# Altium footprint library AUVic_PCB_Library_Regulators.PcbLib: 153 footprints (part 7 of 10)
Each footprint in its own frame and in the unit in brackets; x right, y up, seen from the top. Pads: shape width x height; smd on the part's side, far side on the other; paste and mask are expansions set on the pad; w line width, h text height; cw(c..) or ccw(c..) is an arc to the next point about the centre after c.
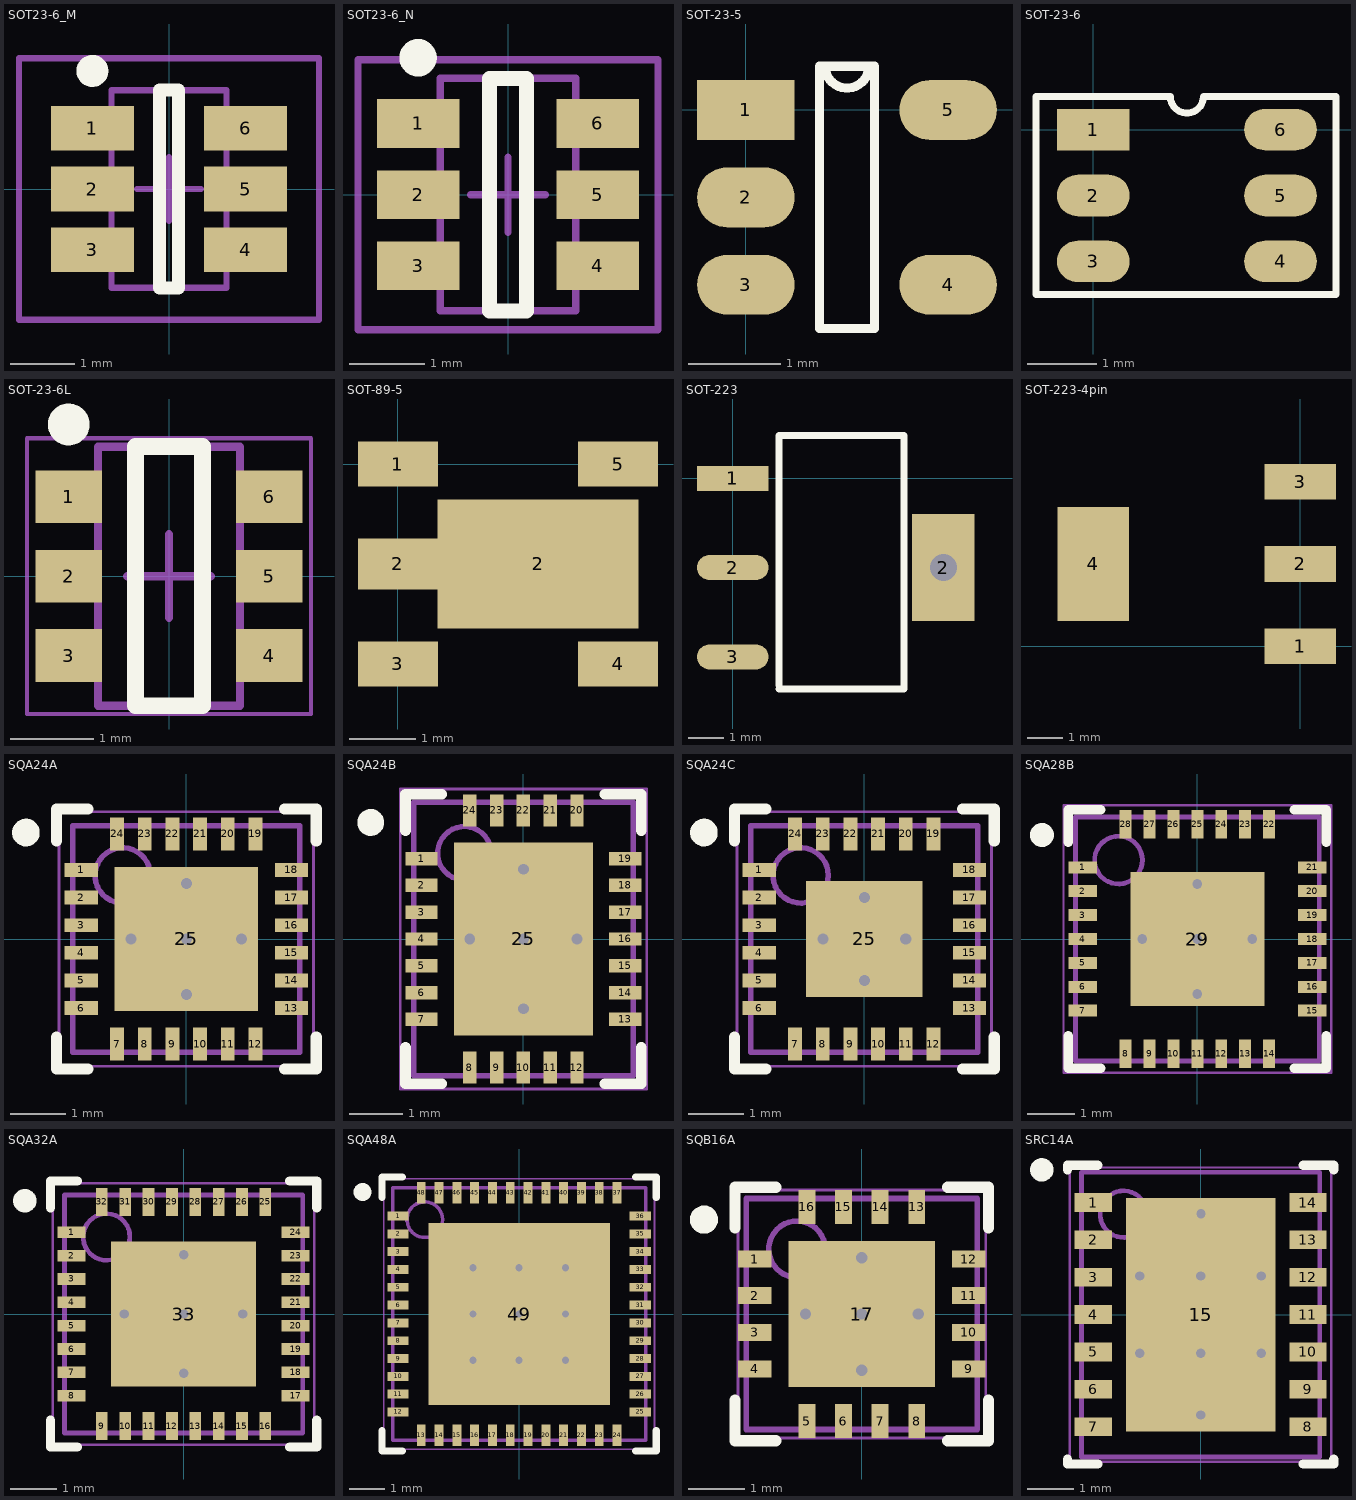
[diagram p6: the footprints below, top view; thin cyan lines are the x and y axes]

## SOT23-6_M [mm] "SOT23, 6-Leads, Body 2.9x1.6mm, Pitch 0.95mm, Lead Span 2.7mm, IPC Low Density"
height 1.45
pads (6):
  rect 1.3x0.7 smd: 1(-1.2,0.95) 2(-1.2,0) 3(-1.2,-0.95) 4(1.2,-0.95) 5(1.2,0) 6(1.2,0.95)
Top Overlay:
  circle w0.25: c-1.2,1.85 r0.125
  lines w0.2: -0.15,-1.55 0.15,-1.55 0.15,1.55 -0.15,1.55 -0.15,-1.55
Body Top:
  lines w0.1: -0.9,-1.55 -0.9,1.55 0.9,1.55 0.9,-1.55 -0.9,-1.55
Courtyard Top:
  lines w0.1: -0.5,0 0.5,0 ; 0,-0.5 0,0.5 ; -2.35,-2.05 -2.35,2.05 2.35,2.05 2.35,-2.05 -2.35,-2.05
3D body "User Library-SOT23-6-2.step": height 1.45, standoff 0, extent -1.375,-1.475 1.425,1.425

## SOT23-6_N [mm] "SOT23, 6-Leads, Body 2.9x1.6mm, Pitch 0.95mm, Lead Span 2.7mm, IPC Medium Density"
height 1.45
pads (6):
  rect 1.1x0.65 smd: 1(-1.2,0.95) 2(-1.2,0) 3(-1.2,-0.95) 4(1.2,-0.95) 5(1.2,0) 6(1.2,0.95)
Top Overlay:
  circle w0.25: c-1.2,1.825 r0.125
  lines w0.2: -0.25,-1.55 0.25,-1.55 0.25,1.55 -0.25,1.55 -0.25,-1.55
Body Top:
  lines w0.1: -0.9,-1.55 -0.9,1.55 0.9,1.55 0.9,-1.55 -0.9,-1.55
Courtyard Top:
  lines w0.1: -0.5,0 0.5,0 ; 0,-0.5 0,0.5 ; -2,-1.8 -2,1.8 2,1.8 2,-1.8 -2,-1.8
3D body: height 1.45, standoff 0, extent -0.9,-1.55 0.9,1.55

## SOT-23-5 [mm]
pads (5):
  rect 1.06x0.65 smd: 1(0,0)
  oval 1.06x0.65 smd: 2(0,-0.95) 3(0,-1.9) 4(2.2,-1.9) 5(2.2,0)
Top Overlay:
  lines w0.1: 0.8,-2.375 1.4,-2.375 1.4,0.475 0.863,0.475 ccw(c1.1,0.475) 1.338,0.475 0.8,0.475 0.8,-2.375
3D body "SW3DPS-SOT-23-5-DEFAULT.STEP": height 1.05, standoff -0.05, extent -0.15,-2.5 2.35,0.5

## SOT-23-6 [mm]
pads (6):
  rect 1.05x0.6 smd: 1(0,0)
  oval 1.05x0.6 smd: 2(0,-0.95) 3(0,-1.9) 4(2.7,-1.9) 5(2.7,-0.95) 6(2.7,0)
Top Overlay:
  lines w0.1: -0.825,-2.375 -0.825,0.475 1.112,0.475 ccw(c1.35,0.475) 1.587,0.475 3.5,0.475 3.5,-2.375 -0.825,-2.375
3D body: height 0.25, standoff 0, extent 2.425,-2.1 2.425,-2.1

## SOT-23-6L [mm] "SOT23, 6-Leads, Body 3.1x1.7mm, Pitch 0.95mm"
height 1.25
pads (6):
  rect 0.8x0.63 smd: 1(-1.2,0.95) 2(-1.2,0) 3(-1.2,-0.95) 4(1.2,-0.95) 5(1.2,0) 6(1.2,0.95)
Top Overlay:
  circle w0.25: c-1.2,1.815 r0.125
  lines w0.2: -0.4,-1.55 -0.4,1.55 0.4,1.55 0.4,-1.55 -0.4,-1.55
Body Top:
  lines w0.1: -0.85,-1.55 0.85,-1.55 0.85,1.55 -0.85,1.55 -0.85,-1.55
Courtyard Top:
  lines w0.05: -1.7,-1.65 1.7,-1.65 1.7,1.65 -1.7,1.65 -1.7,-1.65
  lines w0.1: -0.5,0 0.5,0 ; 0,-0.5 0,0.5
3D body "SOT95P280X125-6L.step": height 1.25, standoff 0, extent -1.55,-1.55 1.55,1.55

## SOT-89-5 [mm]
pads (6):
  rect 1.2x0.68 smd: 1(0,0) 3(0,-3) 4(3.3,-3) 5(3.3,0)
  rect 1.2x0.76 smd: 2(0,-1.5)
  rect 3.02x1.93 smd: 2(2.1,-1.5)
3D body "User Library-SOT89-5.step": height 1.54, standoff 0, extent -0.55,-3.75 3.95,0.75

## SOT-223 [mm]
pads (4):
  rect 2x0.7 smd: 1(0,0)
  oval 2x0.7 smd: 2(0,-2.5) 3(0,-5)
  rect 1.75x3 hole 0.762: 2(5.9,-2.5)
Top Overlay:
  lines w0.2: 1.3,-5.9 4.8,-5.9 4.8,1.2 1.3,1.2 1.3,-5.8

## SOT-223-4pin [mm]
pads (4):
  rect 2x1 smd: 1(0,0) 2(0,2.3) 3(0,4.6)
  rect 2x3.2 smd: 4(-5.8,2.3)
3D body "User Library-sot-223.step": height 1.64, standoff -0.04, extent -6.466,-0.95 0.466,5.55

## SQA24A [mm] "QFN, 24-Leads, Body 4x4mm, Pitch 0.5mm, NSC Recommended"
height 0.8
pads (25):
  rect 0.6x0.25 smd paste-0.125 mask+0.051: 1(-1.9,1.25) 2(-1.9,0.75) 3(-1.9,0.25) 4(-1.9,-0.25) 5(-1.9,-0.75) 6(-1.9,-1.25) 13(1.9,-1.25) 14(1.9,-0.75) 15(1.9,-0.25) 16(1.9,0.25) 17(1.9,0.75) 18(1.9,1.25)
  rect 0.25x0.6 smd paste-0.125 mask+0.051: 7(-1.25,-1.9) 8(-0.75,-1.9) 9(-0.25,-1.9) 10(0.25,-1.9) 11(0.75,-1.9) 12(1.25,-1.9) 19(1.25,1.9) 20(0.75,1.9) 21(0.25,1.9) 22(-0.25,1.9) 23(-0.75,1.9) 24(-1.25,1.9)
  rect 2.6x2.6 smd paste-1.3 mask+0.051: 25(0,0)
via 0,0 diameter 0.5 hole 0.2
via 1,0 diameter 0.5 hole 0.2
via -1,0 diameter 0.5 hole 0.2
via 0,1 diameter 0.5 hole 0.2
via 0,-1 diameter 0.5 hole 0.2
Top Overlay:
  circle w0.25: c-2.9,1.925 r0.125
  lines w0.2: -2.35,-1.775 -2.35,-2.35 -1.775,-2.35 ; -2.35,1.775 -2.35,2.35 -1.775,2.35 ; 1.775,-2.35 2.35,-2.35 2.35,-1.775 ; 1.775,2.35 2.35,2.35 2.35,1.775
Top Paste:
  region: 1.125,2.4 1.125,1.7 1.375,1.7 1.375,2.4
  region: 0.625,2.4 0.625,1.7 0.875,1.7 0.875,2.4
  region: 0.125,2.4 0.125,1.7 0.375,1.7 0.375,2.4
  region: -0.375,2.4 -0.375,1.7 -0.125,1.7 -0.125,2.4
  region: -0.875,2.4 -0.875,1.7 -0.625,1.7 -0.625,2.4
  region: -1.375,2.4 -1.375,1.7 -1.125,1.7 -1.125,2.4
  region: 2.4,-1.125 1.7,-1.125 1.7,-1.375 2.4,-1.375
  region: 2.4,-0.625 1.7,-0.625 1.7,-0.875 2.4,-0.875
  region: 2.4,-0.125 1.7,-0.125 1.7,-0.375 2.4,-0.375
  region: 2.4,0.375 1.7,0.375 1.7,0.125 2.4,0.125
  region: 2.4,0.875 1.7,0.875 1.7,0.625 2.4,0.625
  region: 2.4,1.375 1.7,1.375 1.7,1.125 2.4,1.125
  region: -1.125,-2.4 -1.125,-1.7 -1.375,-1.7 -1.375,-2.4
  region: -0.625,-2.4 -0.625,-1.7 -0.875,-1.7 -0.875,-2.4
  region: -0.125,-2.4 -0.125,-1.7 -0.375,-1.7 -0.375,-2.4
  region: 0.375,-2.4 0.375,-1.7 0.125,-1.7 0.125,-2.4
  region: 0.875,-2.4 0.875,-1.7 0.625,-1.7 0.625,-2.4
  region: 1.375,-2.4 1.375,-1.7 1.125,-1.7 1.125,-2.4
  rectangle: -2.4,-1.375 -1.7,-1.125
  rectangle: -2.4,-0.875 -1.7,-0.625
  rectangle: -2.4,-0.375 -1.7,-0.125
  rectangle: -2.4,0.125 -1.7,0.375
  rectangle: -2.4,0.625 -1.7,0.875
  rectangle: -2.4,1.125 -1.7,1.375
  rectangle: 0.1,-1.2 1.2,-0.1
  region: -0.1,-0.1 -1.2,-0.1 -1.2,-1.2 -0.1,-1.2
  region: -0.1,1.2 -1.2,1.2 -1.2,0.1 -0.1,0.1
  rectangle: 0.1,0.1 1.2,1.2
Body Top:
  circle w0.1: c-1.15,1.15 r0.5
  lines w0.1: -2.05,-2.05 -2.05,2.05 2.05,2.05 2.05,-2.05 -2.05,-2.05
Courtyard Top:
  lines w0.05: -2.3,-2.3 -2.3,2.3 2.3,2.3 2.3,-2.3 -2.3,-2.3
  lines w0.1: -0.5,0 0.5,0 ; 0,-0.5 0,0.5
3D body: height 0.8, standoff 0, extent -2.05,-2.05 2.05,2.05

## SQA24B [mm] "QFN, 24-Leads, Body 5x4mm, Pitch 0.5mm, NSC Recommended"
height 0.8
pads (25):
  rect 0.6x0.25 smd paste-0.3 mask+0.051: 1(-1.9,1.5) 2(-1.9,1) 3(-1.9,0.5) 4(-1.9,0) 5(-1.9,-0.5) 6(-1.9,-1) 7(-1.9,-1.5) 13(1.9,-1.5) 14(1.9,-1) 15(1.9,-0.5) 16(1.9,0) 17(1.9,0.5) 18(1.9,1) 19(1.9,1.5)
  rect 0.25x0.6 smd paste-0.3 mask+0.051: 8(-1,-2.4) 9(-0.5,-2.4) 10(0,-2.4) 11(0.5,-2.4) 12(1,-2.4) 20(1,2.4) 21(0.5,2.4) 22(0,2.4) 23(-0.5,2.4) 24(-1,2.4)
  rect 2.6x3.6 smd paste-1.3 mask+0.051: 25(0,0)
via 0,0 diameter 0.5 hole 0.2
via -1,0 diameter 0.5 hole 0.2
via 0,-1.3 diameter 0.5 hole 0.2
via 0,1.3 diameter 0.5 hole 0.2
via 1,0 diameter 0.5 hole 0.2
Top Overlay:
  circle w0.25: c-2.85,2.175 r0.125
  lines w0.2: -2.2,-2.025 -2.2,-2.7 -1.525,-2.7 ; -2.2,2.025 -2.2,2.7 -1.525,2.7 ; 1.525,-2.7 2.2,-2.7 2.2,-2.025 ; 1.525,2.7 2.2,2.7 2.2,2.025
Top Paste:
  region: 1.125,-2.9 1.125,-2.2 0.875,-2.2 0.875,-2.9
  region: 0.625,-2.9 0.625,-2.2 0.375,-2.2 0.375,-2.9
  region: 0.125,-2.9 0.125,-2.2 -0.125,-2.2 -0.125,-2.9
  region: -0.375,-2.9 -0.375,-2.2 -0.625,-2.2 -0.625,-2.9
  region: -0.875,-2.9 -0.875,-2.2 -1.125,-2.2 -1.125,-2.9
  rectangle: -2.4,-1.625 -1.7,-1.375
  rectangle: -2.4,-1.125 -1.7,-0.875
  rectangle: -2.4,-0.625 -1.7,-0.375
  rectangle: -2.4,-0.125 -1.7,0.125
  rectangle: -2.4,0.375 -1.7,0.625
  rectangle: -2.4,0.875 -1.7,1.125
  rectangle: -2.4,1.375 -1.7,1.625
  region: -1.125,2.9 -1.125,2.2 -0.875,2.2 -0.875,2.9
  region: -0.625,2.9 -0.625,2.2 -0.375,2.2 -0.375,2.9
  region: -0.125,2.9 -0.125,2.2 0.125,2.2 0.125,2.9
  region: 0.375,2.9 0.375,2.2 0.625,2.2 0.625,2.9
  region: 0.875,2.9 0.875,2.2 1.125,2.2 1.125,2.9
  region: 2.4,-1.375 1.7,-1.375 1.7,-1.625 2.4,-1.625
  region: 2.4,-0.875 1.7,-0.875 1.7,-1.125 2.4,-1.125
  region: 2.4,-0.375 1.7,-0.375 1.7,-0.625 2.4,-0.625
  region: 2.4,0.125 1.7,0.125 1.7,-0.125 2.4,-0.125
  region: 2.4,0.625 1.7,0.625 1.7,0.375 2.4,0.375
  region: 2.4,1.125 1.7,1.125 1.7,0.875 2.4,0.875
  region: 2.4,1.625 1.7,1.625 1.7,1.375 2.4,1.375
  rectangle: 0.1,0.1 1.2,1.7
  region: -0.1,1.7 -1.2,1.7 -1.2,0.1 -0.1,0.1
  region: -0.1,-0.1 -1.2,-0.1 -1.2,-1.7 -0.1,-1.7
  rectangle: 0.1,-1.7 1.2,-0.1
Body Top:
  circle w0.1: c-1.1,1.6 r0.5
  lines w0.1: -2.05,-2.55 2.05,-2.55 2.05,2.55 -2.05,2.55 -2.05,-2.55
Courtyard Top:
  lines w0.05: -2.3,-2.8 2.3,-2.8 2.3,2.8 -2.3,2.8 -2.3,-2.8
  lines w0.1: -0.5,0 0.5,0 ; 0,-0.5 0,0.5
3D body: height 0.8, standoff 0, extent -2.05,-2.55 2.05,2.55

## SQA24C [mm] "QFN, 24-Leads, Body 4x4mm, Pitch 0.5mm, NSC Recommended"
height 0.8
pads (25):
  rect 0.6x0.25 smd paste-0.125 mask+0.051: 1(-1.9,1.25) 2(-1.9,0.75) 3(-1.9,0.25) 4(-1.9,-0.25) 5(-1.9,-0.75) 6(-1.9,-1.25) 13(1.9,-1.25) 14(1.9,-0.75) 15(1.9,-0.25) 16(1.9,0.25) 17(1.9,0.75) 18(1.9,1.25)
  rect 0.25x0.6 smd paste-0.125 mask+0.051: 7(-1.25,-1.9) 8(-0.75,-1.9) 9(-0.25,-1.9) 10(0.25,-1.9) 11(0.75,-1.9) 12(1.25,-1.9) 19(1.25,1.9) 20(0.75,1.9) 21(0.25,1.9) 22(-0.25,1.9) 23(-0.75,1.9) 24(-1.25,1.9)
  rect 2.1x2.1 smd paste-1.05 mask+0.051: 25(0,0)
via 0,-0.75 diameter 0.5 hole 0.2
via 0,0.75 diameter 0.5 hole 0.2
via -0.75,0 diameter 0.5 hole 0.2
via 0.75,0 diameter 0.5 hole 0.2
Top Overlay:
  circle w0.25: c-2.9,1.925 r0.125
  lines w0.2: -2.35,-1.775 -2.35,-2.35 -1.775,-2.35 ; -2.35,1.775 -2.35,2.35 -1.775,2.35 ; 1.775,-2.35 2.35,-2.35 2.35,-1.775 ; 1.775,2.35 2.35,2.35 2.35,1.775
Top Paste:
  rectangle: -2.4,1.125 -1.7,1.375
  rectangle: -2.4,0.625 -1.7,0.875
  rectangle: -2.4,0.125 -1.7,0.375
  rectangle: -2.4,-0.375 -1.7,-0.125
  rectangle: -2.4,-0.875 -1.7,-0.625
  rectangle: -2.4,-1.375 -1.7,-1.125
  region: 1.375,-2.4 1.375,-1.7 1.125,-1.7 1.125,-2.4
  region: 0.875,-2.4 0.875,-1.7 0.625,-1.7 0.625,-2.4
  region: 0.375,-2.4 0.375,-1.7 0.125,-1.7 0.125,-2.4
  region: -0.125,-2.4 -0.125,-1.7 -0.375,-1.7 -0.375,-2.4
  region: -0.625,-2.4 -0.625,-1.7 -0.875,-1.7 -0.875,-2.4
  region: -1.125,-2.4 -1.125,-1.7 -1.375,-1.7 -1.375,-2.4
  region: 2.4,1.375 1.7,1.375 1.7,1.125 2.4,1.125
  region: 2.4,0.875 1.7,0.875 1.7,0.625 2.4,0.625
  region: 2.4,0.375 1.7,0.375 1.7,0.125 2.4,0.125
  region: 2.4,-0.125 1.7,-0.125 1.7,-0.375 2.4,-0.375
  region: 2.4,-0.625 1.7,-0.625 1.7,-0.875 2.4,-0.875
  region: 2.4,-1.125 1.7,-1.125 1.7,-1.375 2.4,-1.375
  region: -1.375,2.4 -1.375,1.7 -1.125,1.7 -1.125,2.4
  region: -0.875,2.4 -0.875,1.7 -0.625,1.7 -0.625,2.4
  region: -0.375,2.4 -0.375,1.7 -0.125,1.7 -0.125,2.4
  region: 0.125,2.4 0.125,1.7 0.375,1.7 0.375,2.4
  region: 0.625,2.4 0.625,1.7 0.875,1.7 0.875,2.4
  region: 1.125,2.4 1.125,1.7 1.375,1.7 1.375,2.4
  rectangle: -0.95,-0.95 0.95,0.95
Body Top:
  circle w0.1: c-1.15,1.15 r0.5
  lines w0.1: -2.05,-2.05 2.05,-2.05 2.05,2.05 -2.05,2.05 -2.05,-2.05
Courtyard Top:
  lines w0.05: -2.3,-2.3 2.3,-2.3 2.3,2.3 -2.3,2.3 -2.3,-2.3
  lines w0.1: -0.5,0 0.5,0 ; 0,-0.5 0,0.5
3D body: height 0.8, standoff 0, extent -2.05,-2.05 2.05,2.05

## SQA28B [mm] "QFN, 29-Leads, Body 5x5mm, Pitch 0.5mm, Thermal Pad 2.8x2.8mm, NSC Recommended"
height 0.8
pads (29):
  rect 0.6x0.25 smd paste-0.125 mask+0.051: 1(-2.4,1.5) 2(-2.4,1) 3(-2.4,0.5) 4(-2.4,0) 5(-2.4,-0.5) 6(-2.4,-1) 7(-2.4,-1.5) 15(2.4,-1.5) 16(2.4,-1) 17(2.4,-0.5) 18(2.4,0) 19(2.4,0.5) 20(2.4,1) 21(2.4,1.5)
  rect 0.25x0.6 smd paste-0.125 mask+0.051: 8(-1.5,-2.4) 9(-1,-2.4) 10(-0.5,-2.4) 11(0,-2.4) 12(0.5,-2.4) 13(1,-2.4) 14(1.5,-2.4) 22(1.5,2.4) 23(1,2.4) 24(0.5,2.4) 25(0,2.4) 26(-0.5,2.4) 27(-1,2.4) 28(-1.5,2.4)
  rect 2.8x2.8 smd paste-1.8 mask+0.051: 29(0,0)
via 0,0 diameter 0.5 hole 0.2
via 1.15,0 diameter 0.5 hole 0.2
via 0,1.15 diameter 0.5 hole 0.2
via 0,-1.15 diameter 0.5 hole 0.2
via -1.15,0 diameter 0.5 hole 0.2
Top Overlay:
  circle w0.25: c-3.25,2.175 r0.125
  lines w0.2: -2.7,-2.025 -2.7,-2.7 -2.025,-2.7 ; -2.7,2.025 -2.7,2.7 -2.025,2.7 ; 2.025,-2.7 2.7,-2.7 2.7,-2.025 ; 2.025,2.7 2.7,2.7 2.7,2.025
Top Paste:
  rectangle: -2.9,1.375 -2.2,1.625
  rectangle: -2.9,0.875 -2.2,1.125
  rectangle: -2.9,0.375 -2.2,0.625
  rectangle: -2.9,-0.125 -2.2,0.125
  rectangle: -2.9,-0.625 -2.2,-0.375
  rectangle: -2.9,-1.125 -2.2,-0.875
  rectangle: -2.9,-1.625 -2.2,-1.375
  region: 2.9,-1.375 2.2,-1.375 2.2,-1.625 2.9,-1.625
  region: 2.9,-0.875 2.2,-0.875 2.2,-1.125 2.9,-1.125
  region: 2.9,-0.375 2.2,-0.375 2.2,-0.625 2.9,-0.625
  region: 2.9,0.125 2.2,0.125 2.2,-0.125 2.9,-0.125
  region: 2.9,0.625 2.2,0.625 2.2,0.375 2.9,0.375
  region: 2.9,1.125 2.2,1.125 2.2,0.875 2.9,0.875
  region: 2.9,1.625 2.2,1.625 2.2,1.375 2.9,1.375
  region: 1.375,2.9 1.375,2.2 1.625,2.2 1.625,2.9
  region: 0.875,2.9 0.875,2.2 1.125,2.2 1.125,2.9
  region: 0.375,2.9 0.375,2.2 0.625,2.2 0.625,2.9
  region: -0.125,2.9 -0.125,2.2 0.125,2.2 0.125,2.9
  region: -0.625,2.9 -0.625,2.2 -0.375,2.2 -0.375,2.9
  region: -1.125,2.9 -1.125,2.2 -0.875,2.2 -0.875,2.9
  region: -1.625,2.9 -1.625,2.2 -1.375,2.2 -1.375,2.9
  region: 1.625,-2.9 1.625,-2.2 1.375,-2.2 1.375,-2.9
  region: 1.125,-2.9 1.125,-2.2 0.875,-2.2 0.875,-2.9
  region: 0.625,-2.9 0.625,-2.2 0.375,-2.2 0.375,-2.9
  region: 0.125,-2.9 0.125,-2.2 -0.125,-2.2 -0.125,-2.9
  region: -0.375,-2.9 -0.375,-2.2 -0.625,-2.2 -0.625,-2.9
  region: -0.875,-2.9 -0.875,-2.2 -1.125,-2.2 -1.125,-2.9
  region: -1.375,-2.9 -1.375,-2.2 -1.625,-2.2 -1.625,-2.9
  region: -0.1,1.2 -1.2,1.2 -1.2,0.1 -0.1,0.1
  region: -1.2,-0.1 -1.2,-1.2 -0.1,-1.2 -0.1,-0.1
  rectangle: 0.1,-1.2 1.2,-0.1
  region: 1.2,0.1 1.2,1.2 0.1,1.2 0.1,0.1
Body Top:
  circle w0.1: c-1.65,1.65 r0.5
  lines w0.1: -2.55,-2.55 2.55,-2.55 2.55,2.55 -2.55,2.55 -2.55,-2.55
Courtyard Top:
  lines w0.05: -2.8,-2.8 2.8,-2.8 2.8,2.8 -2.8,2.8 -2.8,-2.8
  lines w0.1: -0.5,0 0.5,0 ; 0,-0.5 0,0.5
3D body: height 0.8, standoff 0, extent -2.55,-2.55 2.55,2.55

## SQA32A [mm] "QFN, 32-Leads, Body 5x5mm, Pitch 0.5mm, NSC Recommended"
height 0.8
pads (33):
  rect 0.6x0.25 smd paste-0.125 mask+0.051: 1(-2.4,1.75) 2(-2.4,1.25) 3(-2.4,0.75) 4(-2.4,0.25) 5(-2.4,-0.25) 6(-2.4,-0.75) 7(-2.4,-1.25) 8(-2.4,-1.75) 17(2.4,-1.75) 18(2.4,-1.25) 19(2.4,-0.75) 20(2.4,-0.25) 21(2.4,0.25) 22(2.4,0.75) 23(2.4,1.25) 24(2.4,1.75)
  rect 0.25x0.6 smd paste-0.125 mask+0.051: 9(-1.75,-2.4) 10(-1.25,-2.4) 11(-0.75,-2.4) 12(-0.25,-2.4) 13(0.25,-2.4) 14(0.75,-2.4) 15(1.25,-2.4) 16(1.75,-2.4) 25(1.75,2.4) 26(1.25,2.4) 27(0.75,2.4) 28(0.25,2.4) 29(-0.25,2.4) 30(-0.75,2.4) 31(-1.25,2.4) 32(-1.75,2.4)
  rect 3.1x3.1 smd paste-1.55 mask+0.051: 33(0,0)
via 0,-1.27 diameter 0.5 hole 0.2
via 1.27,0 diameter 0.5 hole 0.2
via 0,0 diameter 0.5 hole 0.2
via -1.27,0 diameter 0.5 hole 0.2
via 0,1.27 diameter 0.5 hole 0.2
Top Overlay:
  circle w0.25: c-3.4,2.425 r0.125
  lines w0.2: -2.85,-2.275 -2.85,-2.85 -2.275,-2.85 ; -2.85,2.275 -2.85,2.85 -2.275,2.85 ; 2.275,-2.85 2.85,-2.85 2.85,-2.275 ; 2.275,2.85 2.85,2.85 2.85,2.275
Top Paste:
  rectangle: 0.1,-1.4 1.4,-0.1
  region: -0.1,-0.1 -1.4,-0.1 -1.4,-1.4 -0.1,-1.4
  region: -0.1,1.4 -1.4,1.4 -1.4,0.1 -0.1,0.1
  rectangle: 0.1,0.1 1.4,1.4
  rectangle: -2.9,1.625 -2.2,1.875
  rectangle: -2.9,1.125 -2.2,1.375
  rectangle: -2.9,0.625 -2.2,0.875
  rectangle: -2.9,0.125 -2.2,0.375
  rectangle: -2.9,-0.375 -2.2,-0.125
  rectangle: -2.9,-0.875 -2.2,-0.625
  rectangle: -2.9,-1.375 -2.2,-1.125
  rectangle: -2.9,-1.875 -2.2,-1.625
  region: 1.875,-2.9 1.875,-2.2 1.625,-2.2 1.625,-2.9
  region: 1.375,-2.9 1.375,-2.2 1.125,-2.2 1.125,-2.9
  region: 0.875,-2.9 0.875,-2.2 0.625,-2.2 0.625,-2.9
  region: 0.375,-2.9 0.375,-2.2 0.125,-2.2 0.125,-2.9
  region: -0.125,-2.9 -0.125,-2.2 -0.375,-2.2 -0.375,-2.9
  region: -0.625,-2.9 -0.625,-2.2 -0.875,-2.2 -0.875,-2.9
  region: -1.125,-2.9 -1.125,-2.2 -1.375,-2.2 -1.375,-2.9
  region: -1.625,-2.9 -1.625,-2.2 -1.875,-2.2 -1.875,-2.9
  region: 2.9,1.875 2.2,1.875 2.2,1.625 2.9,1.625
  region: 2.9,1.375 2.2,1.375 2.2,1.125 2.9,1.125
  region: 2.9,0.875 2.2,0.875 2.2,0.625 2.9,0.625
  region: 2.9,0.375 2.2,0.375 2.2,0.125 2.9,0.125
  region: 2.9,-0.125 2.2,-0.125 2.2,-0.375 2.9,-0.375
  region: 2.9,-0.625 2.2,-0.625 2.2,-0.875 2.9,-0.875
  region: 2.9,-1.125 2.2,-1.125 2.2,-1.375 2.9,-1.375
  region: 2.9,-1.625 2.2,-1.625 2.2,-1.875 2.9,-1.875
  region: -1.875,2.9 -1.875,2.2 -1.625,2.2 -1.625,2.9
  region: -1.375,2.9 -1.375,2.2 -1.125,2.2 -1.125,2.9
  region: -0.875,2.9 -0.875,2.2 -0.625,2.2 -0.625,2.9
  region: -0.375,2.9 -0.375,2.2 -0.125,2.2 -0.125,2.9
  region: 0.125,2.9 0.125,2.2 0.375,2.2 0.375,2.9
  region: 0.625,2.9 0.625,2.2 0.875,2.2 0.875,2.9
  region: 1.125,2.9 1.125,2.2 1.375,2.2 1.375,2.9
  region: 1.625,2.9 1.625,2.2 1.875,2.2 1.875,2.9
Body Top:
  circle w0.1: c-1.65,1.65 r0.5
  lines w0.1: -2.55,-2.55 2.55,-2.55 2.55,2.55 -2.55,2.55 -2.55,-2.55
Courtyard Top:
  lines w0.05: -2.8,-2.8 2.8,-2.8 2.8,2.8 -2.8,2.8 -2.8,-2.8
  lines w0.1: -0.5,0 0.5,0 ; 0,-0.5 0,0.5
3D body: height 0.8, standoff 0, extent -2.55,-2.55 2.55,2.55

## SQA48A [mm] "QFN, 48-Leads, Body 7x7mm, Pitch 0.5mm, NSC Recommended"
height 0.8
pads (49):
  rect 0.6x0.25 smd paste-0.125 mask+0.051: 1(-3.4,2.75) 2(-3.4,2.25) 3(-3.4,1.75) 4(-3.4,1.25) 5(-3.4,0.75) 6(-3.4,0.25) 7(-3.4,-0.25) 8(-3.4,-0.75) 9(-3.4,-1.25) 10(-3.4,-1.75) 11(-3.4,-2.25) 12(-3.4,-2.75) 25(3.4,-2.75) 26(3.4,-2.25) 27(3.4,-1.75) 28(3.4,-1.25) 29(3.4,-0.75) 30(3.4,-0.25) 31(3.4,0.25) 32(3.4,0.75) 33(3.4,1.25) 34(3.4,1.75) 35(3.4,2.25) 36(3.4,2.75)
  rect 0.25x0.6 smd paste-0.125 mask+0.051: 13(-2.75,-3.4) 14(-2.25,-3.4) 15(-1.75,-3.4) 16(-1.25,-3.4) 17(-0.75,-3.4) 18(-0.25,-3.4) 19(0.25,-3.4) 20(0.75,-3.4) 21(1.25,-3.4) 22(1.75,-3.4) 23(2.25,-3.4) 24(2.75,-3.4) 37(2.75,3.4) 38(2.25,3.4) 39(1.75,3.4) 40(1.25,3.4) 41(0.75,3.4) 42(0.25,3.4) 43(-0.25,3.4) 44(-0.75,3.4) 45(-1.25,3.4) 46(-1.75,3.4) 47(-2.25,3.4) 48(-2.75,3.4)
  rect 5.1x5.1 smd paste-2.55 mask+0.051: 49(0,0)
via 0,-1.3 diameter 0.5 hole 0.2
via 1.3,-1.3 diameter 0.5 hole 0.2
via -1.3,-1.3 diameter 0.5 hole 0.2
via 0,1.3 diameter 0.5 hole 0.2
via 1.3,1.3 diameter 0.5 hole 0.2
via -1.3,1.3 diameter 0.5 hole 0.2
via -1.3,0 diameter 0.5 hole 0.2
via 1.3,0 diameter 0.5 hole 0.2
via 0,0 diameter 0.5 hole 0.2
Top Overlay:
  circle w0.25: c-4.4,3.425 r0.125
  lines w0.2: -3.85,-3.275 -3.85,-3.85 -3.275,-3.85 ; -3.85,3.275 -3.85,3.85 -3.275,3.85 ; 3.275,-3.85 3.85,-3.85 3.85,-3.275 ; 3.275,3.85 3.85,3.85 3.85,3.275
Top Paste:
  rectangle: -3.9,2.625 -3.2,2.875
  rectangle: -3.9,2.125 -3.2,2.375
  rectangle: -3.9,1.625 -3.2,1.875
  rectangle: -3.9,1.125 -3.2,1.375
  rectangle: -3.9,0.625 -3.2,0.875
  rectangle: -3.9,0.125 -3.2,0.375
  rectangle: -3.9,-0.375 -3.2,-0.125
  rectangle: -3.9,-0.875 -3.2,-0.625
  rectangle: -3.9,-1.375 -3.2,-1.125
  rectangle: -3.9,-1.875 -3.2,-1.625
  rectangle: -3.9,-2.375 -3.2,-2.125
  rectangle: -3.9,-2.875 -3.2,-2.625
  region: 2.875,-3.9 2.875,-3.2 2.625,-3.2 2.625,-3.9
  region: 2.375,-3.9 2.375,-3.2 2.125,-3.2 2.125,-3.9
  region: 1.875,-3.9 1.875,-3.2 1.625,-3.2 1.625,-3.9
  region: 1.375,-3.9 1.375,-3.2 1.125,-3.2 1.125,-3.9
  region: 0.875,-3.9 0.875,-3.2 0.625,-3.2 0.625,-3.9
  region: 0.375,-3.9 0.375,-3.2 0.125,-3.2 0.125,-3.9
  region: -0.125,-3.9 -0.125,-3.2 -0.375,-3.2 -0.375,-3.9
  region: -0.625,-3.9 -0.625,-3.2 -0.875,-3.2 -0.875,-3.9
  region: -1.125,-3.9 -1.125,-3.2 -1.375,-3.2 -1.375,-3.9
  region: -1.625,-3.9 -1.625,-3.2 -1.875,-3.2 -1.875,-3.9
  region: -2.125,-3.9 -2.125,-3.2 -2.375,-3.2 -2.375,-3.9
  region: -2.625,-3.9 -2.625,-3.2 -2.875,-3.2 -2.875,-3.9
  region: 3.9,2.875 3.2,2.875 3.2,2.625 3.9,2.625
  region: 3.9,2.375 3.2,2.375 3.2,2.125 3.9,2.125
  region: 3.9,1.875 3.2,1.875 3.2,1.625 3.9,1.625
  region: 3.9,1.375 3.2,1.375 3.2,1.125 3.9,1.125
  region: 3.9,0.875 3.2,0.875 3.2,0.625 3.9,0.625
  region: 3.9,0.375 3.2,0.375 3.2,0.125 3.9,0.125
  region: 3.9,-0.125 3.2,-0.125 3.2,-0.375 3.9,-0.375
  region: 3.9,-0.625 3.2,-0.625 3.2,-0.875 3.9,-0.875
  region: 3.9,-1.125 3.2,-1.125 3.2,-1.375 3.9,-1.375
  region: 3.9,-1.625 3.2,-1.625 3.2,-1.875 3.9,-1.875
  region: 3.9,-2.125 3.2,-2.125 3.2,-2.375 3.9,-2.375
  region: 3.9,-2.625 3.2,-2.625 3.2,-2.875 3.9,-2.875
  region: -2.875,3.9 -2.875,3.2 -2.625,3.2 -2.625,3.9
  region: -2.375,3.9 -2.375,3.2 -2.125,3.2 -2.125,3.9
  region: -1.875,3.9 -1.875,3.2 -1.625,3.2 -1.625,3.9
  region: -1.375,3.9 -1.375,3.2 -1.125,3.2 -1.125,3.9
  region: -0.875,3.9 -0.875,3.2 -0.625,3.2 -0.625,3.9
  region: -0.375,3.9 -0.375,3.2 -0.125,3.2 -0.125,3.9
  region: 0.125,3.9 0.125,3.2 0.375,3.2 0.375,3.9
  region: 0.625,3.9 0.625,3.2 0.875,3.2 0.875,3.9
  region: 1.125,3.9 1.125,3.2 1.375,3.2 1.375,3.9
  region: 1.625,3.9 1.625,3.2 1.875,3.2 1.875,3.9
  region: 2.125,3.9 2.125,3.2 2.375,3.2 2.375,3.9
  region: 2.625,3.9 2.625,3.2 2.875,3.2 2.875,3.9
  rectangle: 0.1,0.1 1.2,1.2
  rectangle: 0.1,1.4 1.2,2.5
  rectangle: 1.4,0.1 2.5,1.2
  rectangle: 1.4,1.4 2.5,2.5
  region: -1.4,2.5 -2.5,2.5 -2.5,1.4 -1.4,1.4
  region: -1.4,1.2 -2.5,1.2 -2.5,0.1 -1.4,0.1
  region: -0.1,2.5 -1.2,2.5 -1.2,1.4 -0.1,1.4
  region: -0.1,1.2 -1.2,1.2 -1.2,0.1 -0.1,0.1
  region: -2.5,-1.4 -2.5,-2.5 -1.4,-2.5 -1.4,-1.4
  region: -1.2,-1.4 -1.2,-2.5 -0.1,-2.5 -0.1,-1.4
  region: -2.5,-0.1 -2.5,-1.2 -1.4,-1.2 -1.4,-0.1
  region: -1.2,-0.1 -1.2,-1.2 -0.1,-1.2 -0.1,-0.1
  region: 1.4,-1.4 1.4,-2.5 2.5,-2.5 2.5,-1.4
  region: 0.1,-1.4 0.1,-2.5 1.2,-2.5 1.2,-1.4
  region: 1.4,-0.1 1.4,-1.2 2.5,-1.2 2.5,-0.1
  region: 0.1,-0.1 0.1,-1.2 1.2,-1.2 1.2,-0.1
Body Top:
  circle w0.1: c-2.65,2.65 r0.5
  lines w0.1: -3.55,-3.55 3.55,-3.55 3.55,3.55 -3.55,3.55 -3.55,-3.55
Courtyard Top:
  lines w0.05: -3.8,-3.8 3.8,-3.8 3.8,3.8 -3.8,3.8 -3.8,-3.8
  lines w0.1: -0.5,0 0.5,0 ; 0,-0.5 0,0.5
3D body: height 0.8, standoff 0, extent -3.55,-3.55 3.55,3.55

## SQB16A [mm] "QFN, 16-Leads, Body 4x4mm, Pitch 0.65mm, Thermal Pad 2.6x2.6mm, NSC Recommended"
height 0.8
pads (17):
  rect 0.6x0.3 smd paste-0.15 mask+0.051: 1(-1.9,0.975) 2(-1.9,0.325) 3(-1.9,-0.325) 4(-1.9,-0.975) 9(1.9,-0.975) 10(1.9,-0.325) 11(1.9,0.325) 12(1.9,0.975)
  rect 0.3x0.6 smd paste-0.15 mask+0.051: 5(-0.975,-1.9) 6(-0.325,-1.9) 7(0.325,-1.9) 8(0.975,-1.9) 13(0.975,1.9) 14(0.325,1.9) 15(-0.325,1.9) 16(-0.975,1.9)
  rect 2.6x2.6 smd paste-1.3 mask+0.051: 17(0,0)
via 0,0 diameter 0.5 hole 0.2
via 1,0 diameter 0.5 hole 0.2
via -1,0 diameter 0.5 hole 0.2
via 0,1 diameter 0.5 hole 0.2
via 0,-1 diameter 0.5 hole 0.2
Top Overlay:
  circle w0.25: c-2.8,1.675 r0.125
  lines w0.2: -2.25,-1.525 -2.25,-2.25 -1.525,-2.25 ; -2.25,1.525 -2.25,2.25 -1.525,2.25 ; 1.525,-2.25 2.25,-2.25 2.25,-1.525 ; 1.525,2.25 2.25,2.25 2.25,1.525
Top Paste:
  rectangle: -2.4,0.825 -1.7,1.125
  rectangle: -2.4,0.175 -1.7,0.475
  rectangle: -2.4,-0.475 -1.7,-0.175
  rectangle: -2.4,-1.125 -1.7,-0.825
  region: 1.125,-2.4 1.125,-1.7 0.825,-1.7 0.825,-2.4
  region: 0.475,-2.4 0.475,-1.7 0.175,-1.7 0.175,-2.4
  region: -0.175,-2.4 -0.175,-1.7 -0.475,-1.7 -0.475,-2.4
  region: -0.825,-2.4 -0.825,-1.7 -1.125,-1.7 -1.125,-2.4
  region: 2.4,1.125 1.7,1.125 1.7,0.825 2.4,0.825
  region: 2.4,0.475 1.7,0.475 1.7,0.175 2.4,0.175
  region: 2.4,-0.175 1.7,-0.175 1.7,-0.475 2.4,-0.475
  region: 2.4,-0.825 1.7,-0.825 1.7,-1.125 2.4,-1.125
  region: -1.125,2.4 -1.125,1.7 -0.825,1.7 -0.825,2.4
  region: -0.475,2.4 -0.475,1.7 -0.175,1.7 -0.175,2.4
  region: 0.175,2.4 0.175,1.7 0.475,1.7 0.475,2.4
  region: 0.825,2.4 0.825,1.7 1.125,1.7 1.125,2.4
  rectangle: 0.1,0.1 1.2,1.2
  region: -0.1,1.2 -1.2,1.2 -1.2,0.1 -0.1,0.1
  region: -0.1,-0.1 -1.2,-0.1 -1.2,-1.2 -0.1,-1.2
  rectangle: 0.1,-1.2 1.2,-0.1
Body Top:
  circle w0.1: c-1.15,1.15 r0.5
  lines w0.1: -2.05,-2.05 -2.05,2.05 2.05,2.05 2.05,-2.05 -2.05,-2.05
Courtyard Top:
  lines w0.05: -2.2,-2.2 -2.2,2.2 2.2,2.2 2.2,-2.2 -2.2,-2.2
  lines w0.1: -0.5,0 0.5,0 ; 0,-0.5 0,0.5
3D body: height 0.8, standoff 0, extent -2.05,-2.05 2.05,2.05

## SRC14A [mm] "SON, 14-Leads, Body 6x5 mm, Pitch 0.8mm, NSC Recommended"
height 1
pads (15):
  rect 0.8x0.4 smd paste-0.2 mask+0.051: 1(-2.3,2.4) 2(-2.3,1.6) 3(-2.3,0.8) 4(-2.3,0) 5(-2.3,-0.8) 6(-2.3,-1.6) 7(-2.3,-2.4) 8(2.3,-2.4) 9(2.3,-1.6) 10(2.3,-0.8) 11(2.3,0) 12(2.3,0.8) 13(2.3,1.6) 14(2.3,2.4)
  rect 3.2x5 smd paste-1.6 mask+0.051: 15(0,0)
via 1.3,-0.825 diameter 0.5 hole 0.2
via 0,-0.825 diameter 0.5 hole 0.2
via -1.3,-0.825 diameter 0.5 hole 0.2
via 1.3,0.825 diameter 0.5 hole 0.2
via 0,0.825 diameter 0.5 hole 0.2
via -1.3,0.825 diameter 0.5 hole 0.2
via 0,-2.15 diameter 0.5 hole 0.2
via 0.01,2.16 diameter 0.5 hole 0.2
Top Overlay:
  circle w0.25: c-3.4,3.1 r0.125
  lines w0.2: -2.85,-3.2 -2.85,-3.1 ; -2.85,3.1 -2.85,3.2 ; -2.845,-3.2 -2.2,-3.2 ; -2.845,3.2 -2.2,3.2 ; 2.2,-3.2 2.845,-3.2 ; 2.2,3.2 2.845,3.2 ; 2.85,-3.2 2.85,-3.1 ; 2.85,3.1 2.85,3.2
Top Paste:
  rectangle: -2.9,2.2 -2,2.6
  rectangle: -1.5,-2.35 -0.1,-0.95
  region: 1.5,-0.95 0.1,-0.95 0.1,-2.35 1.5,-2.35
  rectangle: -1.5,0.95 -0.1,2.35
  region: 1.5,2.35 0.11,2.35 0.11,0.95 1.5,0.95
  rectangle: -1.5,-0.7 -0.1,0.7
  region: 1.5,0.7 0.1,0.7 0.1,-0.7 1.5,-0.7
  rectangle: -2.9,1.4 -2,1.8
  rectangle: -2.9,0.6 -2,1
  rectangle: -2.9,-1 -2,-0.6
  rectangle: -2.9,-1.8 -2,-1.4
  rectangle: -2.9,-2.6 -2,-2.2
  region: -2,0.2 -2.9,0.2 -2.9,-0.2 -2,-0.2
  rectangle: 2,-0.2 2.9,0.2
  region: 2.9,-2.2 2,-2.2 2,-2.6 2.9,-2.6
  region: 2.9,-1.4 2,-1.4 2,-1.8 2.9,-1.8
  region: 2.9,-0.6 2,-0.6 2,-1 2.9,-1
  region: 2.9,1 2,1 2,0.6 2.9,0.6
  region: 2.9,1.8 2,1.8 2,1.4 2.9,1.4
  region: 2.9,2.6 2,2.6 2,2.2 2.9,2.2
Body Top:
  circle w0.1: c-1.65,2.15 r0.5
  lines w0.1: -2.55,-3.05 -2.55,3.05 2.55,3.05 2.55,-3.05 -2.55,-3.05
Courtyard Top:
  lines w0.05: -2.8,-3.15 -2.8,3.15 2.8,3.15 2.8,-3.15 -2.8,-3.15
  lines w0.1: -0.5,0 0.5,0 ; 0,-0.5 0,0.5
3D body: height 1, standoff 0, extent -2.549,-3.049 2.549,3.049